# Altium footprint library PCB - LEADED - SON65P200X200X80-7N.PcbLib: 1 footprints
Each footprint in its own frame and in the unit in brackets; x right, y up, seen from the top. Pads: shape width x height; smd on the part's side, far side on the other; paste and mask are expansions set on the pad; w line width, h text height; cw(c..) or ccw(c..) is an arc to the next point about the centre after c.
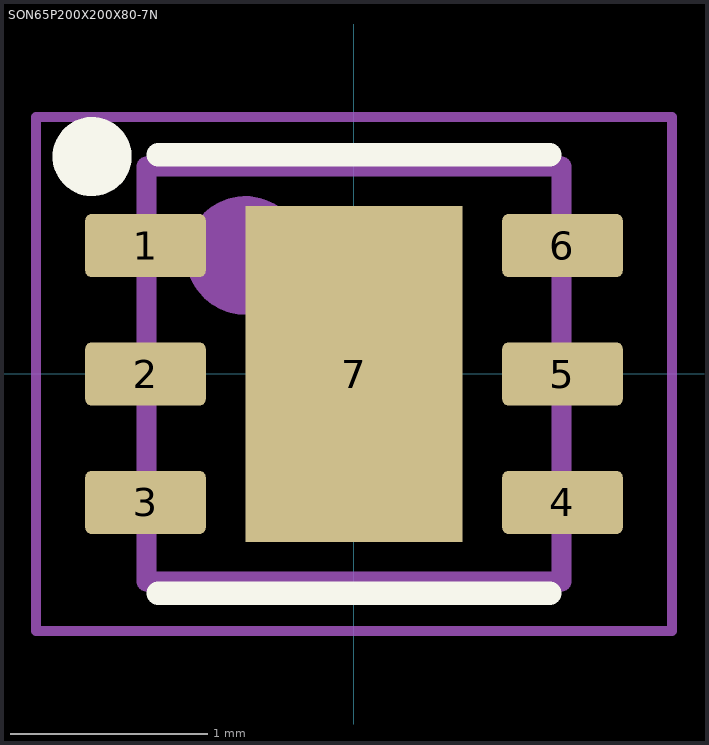
[diagram p0: the footprint, top view; thin cyan lines are the x and y axes]

## SON65P200X200X80-7N [mm]
pads (7):
  rrect20% 0.61x0.32 smd: 1(-1.055,0.65) 2(-1.055,0) 3(-1.055,-0.65) 4(1.055,-0.65) 5(1.055,0) 6(1.055,0.65)
  rect 1.1x1.7 smd: 7(0,0)
Top Overlay:
  circle w0.2: c-1.325,1.1 r0.1
  lines w0.12: -0.99,-1.11 0.99,-1.11 ; -0.99,1.11 0.99,1.11
Top Assembly:
  circle w0.3: c-0.55,0.6 r0.15
  lines w0.1: -1.05,-1.05 1.05,-1.05 1.05,1.05 -1.05,1.05 -1.05,-1.05
Top Courtyard:
  lines w0.05: -1.61,-1.3 -1.61,1.3 1.61,1.3 1.61,-1.3 -1.61,-1.3
Top Designator:
  text ".Designator" at -2.286,1.651 h0.8
Top Component Center:
  lines w0.05: -0.5,0 0.5,0 ; 0,-0.5 0,0.5
3D body: height 0.81, standoff 0, extent -0.75,0.4 -0.35,0.8
3D body: height 0.8, standoff 0, extent -1.05,-1.05 1.05,1.05